# Altium footprint library inductors.PcbLib: 6 footprints
Each footprint in its own frame and in the unit in brackets; x right, y up, seen from the top. Pads: shape width x height; smd on the part's side, far side on the other; paste and mask are expansions set on the pad; w line width, h text height; cw(c..) or ccw(c..) is an arc to the next point about the centre after c.
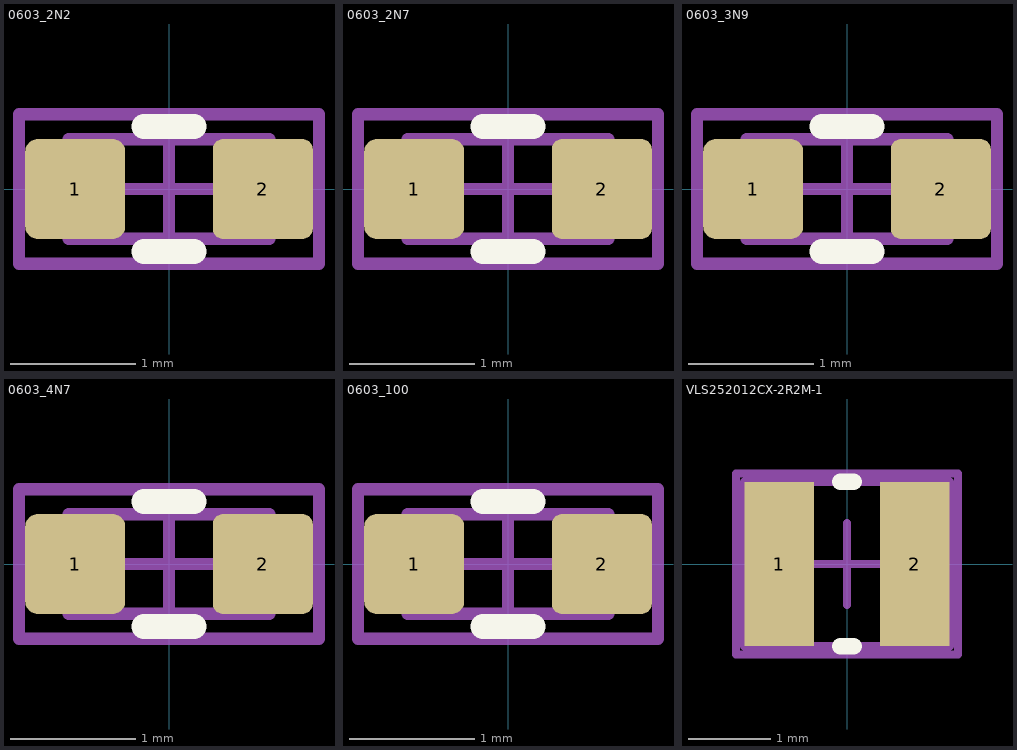
[diagram p0: the footprints below, top view; thin cyan lines are the x and y axes]

## 0603_2N2 [mm] "0603 2.2nH inductor"
height 0.8
pads (2):
  rrect25% 0.8x0.8 smd: 1(-0.75,0)
  rrect20% 0.8x0.8 smd: 2(0.75,0)
Top Overlay:
  lines w0.2: -0.2,-0.5 0.2,-0.5 ; -0.2,0.5 0.2,0.5
Top Assembly:
  lines w0.1: -0.8,-0.4 -0.8,0.4 0.8,0.4 0.8,-0.4 -0.8,-0.4
Top Component Center:
  lines w0.1: -0.5,0 0.5,0 ; 0,-0.5 0,0.5
Top Component Outline:
  lines w0.1: -0.8,-0.4 -0.8,0.4 0.8,0.4 0.8,-0.4 -0.8,-0.4
Top Courtyard:
  lines w0.1: -1.2,-0.6 1.2,-0.6 1.2,0.6 -1.2,0.6 -1.2,-0.6
Top Designator:
  text "''.Designator''" at 0,0 h2.5
Top Value:
  text "''.Comment''" at 0,0 h2.5
3D body "0603_smd_inductor_2N2.STEP": height 0.8, standoff 0, extent -0.8,-0.4 0.8,0.4

## 0603_2N7 [mm] "0603 2.7nH inductor"
height 0.8
pads (2):
  rrect25% 0.8x0.8 smd: 1(-0.75,0)
  rrect20% 0.8x0.8 smd: 2(0.75,0)
Top Overlay:
  lines w0.2: -0.2,-0.5 0.2,-0.5 ; -0.2,0.5 0.2,0.5
Top Assembly:
  lines w0.1: -0.8,-0.4 -0.8,0.4 0.8,0.4 0.8,-0.4 -0.8,-0.4
Top Component Center:
  lines w0.1: -0.5,0 0.5,0 ; 0,-0.5 0,0.5
Top Component Outline:
  lines w0.1: -0.8,-0.4 -0.8,0.4 0.8,0.4 0.8,-0.4 -0.8,-0.4
Top Courtyard:
  lines w0.1: -1.2,-0.6 1.2,-0.6 1.2,0.6 -1.2,0.6 -1.2,-0.6
Top Designator:
  text "''.Designator''" at 0,0 h2.5
Top Value:
  text "''.Comment''" at 0,0 h2.5
3D body "0603_smd_inductor_2N7.STEP": height 0.8, standoff 0, extent -0.8,-0.4 0.8,0.4

## 0603_3N9 [mm] "0603 3.9nH inductor"
height 0.8
pads (2):
  rrect25% 0.8x0.8 smd: 1(-0.75,0)
  rrect20% 0.8x0.8 smd: 2(0.75,0)
Top Overlay:
  lines w0.2: -0.2,-0.5 0.2,-0.5 ; -0.2,0.5 0.2,0.5
Top Assembly:
  lines w0.1: -0.8,-0.4 -0.8,0.4 0.8,0.4 0.8,-0.4 -0.8,-0.4
Top Component Center:
  lines w0.1: -0.5,0 0.5,0 ; 0,-0.5 0,0.5
Top Component Outline:
  lines w0.1: -0.8,-0.4 -0.8,0.4 0.8,0.4 0.8,-0.4 -0.8,-0.4
Top Courtyard:
  lines w0.1: -1.2,-0.6 1.2,-0.6 1.2,0.6 -1.2,0.6 -1.2,-0.6
Top Designator:
  text "''.Designator''" at 0,0 h2.5
Top Value:
  text "''.Comment''" at 0,0 h2.5
3D body "0603_smd_inductor_3N9.STEP": height 0.8, standoff 0, extent -0.8,-0.4 0.8,0.4

## 0603_4N7 [mm] "0603 4.7nH inductor"
height 0.8
pads (2):
  rrect25% 0.8x0.8 smd: 1(-0.75,0)
  rrect20% 0.8x0.8 smd: 2(0.75,0)
Top Overlay:
  lines w0.2: -0.2,-0.5 0.2,-0.5 ; -0.2,0.5 0.2,0.5
Top Assembly:
  lines w0.1: -0.8,-0.4 0.8,-0.4 0.8,0.4 -0.8,0.4 -0.8,-0.4
Top Component Center:
  lines w0.1: -0.5,0 0.5,0 ; 0,-0.5 0,0.5
Top Component Outline:
  lines w0.1: -0.8,-0.4 0.8,-0.4 0.8,0.4 -0.8,0.4 -0.8,-0.4
Top Courtyard:
  lines w0.1: -1.2,-0.6 -1.2,0.6 1.2,0.6 1.2,-0.6 -1.2,-0.6
Top Designator:
  text "''.Designator''" at 0,0 h2.5
Top Value:
  text "''.Comment''" at 0,0 h2.5
3D body "0603_smd_inductor_4N7.STEP": height 0.8, standoff 0, extent -0.8,-0.4 0.8,0.4

## 0603_100 [mm] "0603 10uH inductor"
height 0.8
pads (2):
  rrect25% 0.8x0.8 smd: 1(-0.75,0)
  rrect20% 0.8x0.8 smd: 2(0.75,0)
Top Overlay:
  lines w0.2: -0.2,-0.5 0.2,-0.5 ; -0.2,0.5 0.2,0.5
Top Assembly:
  lines w0.1: -0.8,-0.4 -0.8,0.4 0.8,0.4 0.8,-0.4 -0.8,-0.4
Top Component Center:
  lines w0.1: -0.5,0 0.5,0 ; 0,-0.5 0,0.5
Top Component Outline:
  lines w0.1: -0.8,-0.4 -0.8,0.4 0.8,0.4 0.8,-0.4 -0.8,-0.4
Top Courtyard:
  lines w0.1: -1.2,-0.6 1.2,-0.6 1.2,0.6 -1.2,0.6 -1.2,-0.6
Top Designator:
  text "''.Designator''" at 0,0 h2.5
Top Value:
  text "''.Comment''" at 0,0 h2.5
3D body "0603_smd_inductor_100.STEP": height 0.8, standoff 0, extent -0.8,-0.4 0.8,0.4

## VLS252012CX-2R2M-1 [mm] "2520 2.2uH inductor"
height 1.2
pads (2):
  rect 0.85x2 smd: 1(-0.825,0) 2(0.825,0)
Top Overlay:
  lines w0.2: -0.08,-1 0.08,-1 ; -0.08,1 0.08,1
Top Assembly:
  lines w0.1: -1.25,-1 -1.25,1 1.25,1 1.25,-1 -1.25,-1
Top Component Center:
  lines w0.1: -0.5,0 0.5,0 ; 0,-0.5 0,0.5
Top Component Outline:
  lines w0.1: -1.25,-1 -1.25,1 1.25,1 1.25,-1 -1.25,-1
Top Courtyard:
  lines w0.1: -1.35,-1.1 -1.35,1.1 1.35,1.1 1.35,-1.1 -1.35,-1.1
Top Designator:
  text "''.Designator''" at 0,0 h2.5
Top Value:
  text "''.Comment''" at 0,0 h2.5
3D body "VLS252012CX-2R2M-1.STEP": height 1.2, standoff 0, extent -1.25,-1 1.25,1